# EAGLE library part ZXGD3009 (library projectLib)
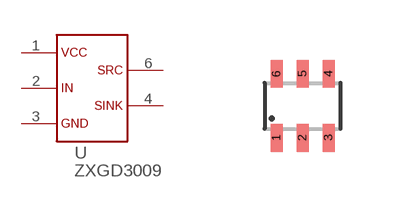
[diagram p0: symbol with the pads of SOT363; footprint SOT363]

Designator prefix U

## ZXGD3009  [SOT363]
1  VCC  pwr
2  IN  in
3  GND  pwr
4  SINK  pwr
5  NC  nc
6  SOURCE  pwr

## Footprint SOT363 (pad centres in mm)
SOT363 Source: Infineon-BCR22PN-DS-v01_01-en.pdf
smd 0.3 x 0.7: 1 -0.65,-0.8; 2 0,-0.8; 3 0.65,-0.8; 4 0.65,0.8; 5 0,0.8; 6 -0.65,0.8